# Altium footprint library notus.PcbLib: 31 footprints (part 2 of 2)
Each footprint in its own frame and in the unit in brackets; x right, y up, seen from the top. Pads: shape width x height; smd on the part's side, far side on the other; paste and mask are expansions set on the pad; w line width, h text height; cw(c..) or ccw(c..) is an arc to the next point about the centre after c.
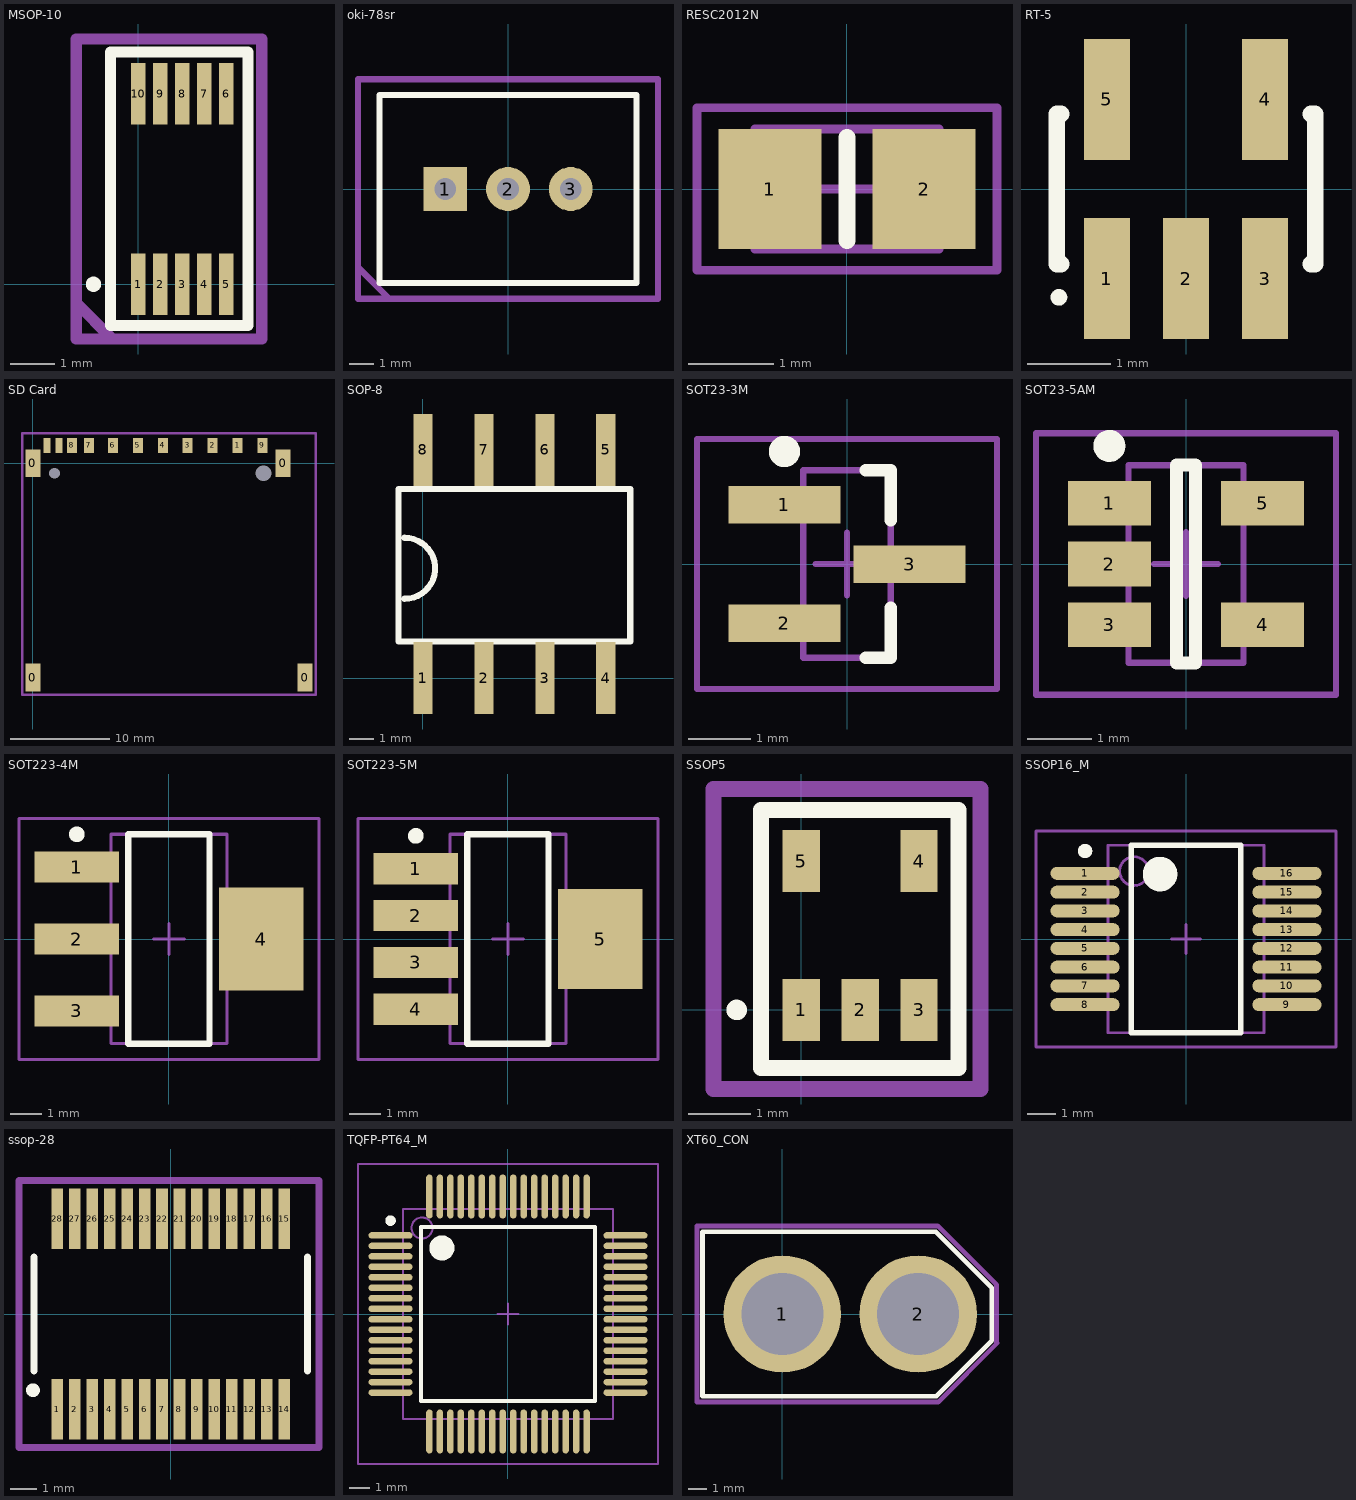
[diagram p1: the footprints below, top view; thin cyan lines are the x and y axes]

## MSOP-10 [mm]
pads (10):
  rect 0.33x1.4 smd mask+0.08: 1(0,0) 2(0.5,0) 3(1,0) 4(1.5,0) 5(2,0) 6(2,4.33) 7(1.5,4.33) 8(1,4.33) 9(0.5,4.33) 10(0,4.33)
Top Overlay:
  circle w0.254: c-1.015,0 r0.046
  lines w0.254: -0.469,-0.94 2.5,-0.94 2.5,5.283 -0.625,5.283 -0.625,-0.94 -0.312,-0.94
Mechanical 15:
  lines w0.254: -1.398,-0.431 -0.61,-1.219 ; -1.406,-1.245 -1.406,0 -1.406,5.577 2.812,5.577 2.812,-1.245 -1.406,-1.245
  text ".Designator" at -3,1.69 h1.52
3D body: height 1.1, standoff 0, extent -0.156,0 2.187,4.326

## oki-78sr [mil] "5V regulator"
pads (3):
  rect 70x70 hole 35: 1(-100,0)
  round 70 hole 35: 2(0,0) 3(100,0)
Top Overlay:
  lines w10: -205,-150 205,-150 205,150 -205,150 -205,-150
Mechanical 15:
  lines w10: -239.12,-125 -189.12,-175 -170.8,-175 ; -239.12,-175 239.12,-175 239.12,175 -239.12,175 -239.12,-175
3D body: height 650, standoff 0, extent -204.96,-150 204.96,150

## RESC2012N [mm] "Chip Resistor, Body 2.0x1.3mm, IPC Medium Density"
height 0.65
pads (2):
  rect 1.2x1.4 smd: 1(-0.9,0) 2(0.9,0)
Top Overlay:
  lines w0.2: 0,-0.6 0,0.6
Mechanical 13:
  lines w0.1: -1.075,-0.7 1.075,-0.7 1.075,0.7 -1.075,0.7 -1.075,-0.7
Mechanical 15:
  lines w0.1: -0.5,0 0.5,0 ; 0,-0.5 0,0.5 ; -1.75,-0.95 1.75,-0.95 1.75,0.95 -1.75,0.95 -1.75,-0.95
3D body: height 0.65, standoff 0, extent -1.075,-0.7 1.075,0.7

## RT-5 [mm] "SOT-23/SC-74A; 5 Leads; Body 3.1 x 3 mm, inc. leads (LxW max)"
height 1.45
pads (5):
  rect 0.55x1.45 smd: 1(-0.95,-1.075) 2(0,-1.075) 3(0.95,-1.075) 4(0.95,1.075) 5(-0.95,1.075)
Top Overlay:
  circle w0.1: c-1.525,-1.3 r0.05
  lines w0.2: -1.5,-0.9 -1.55,-0.9 -1.55,0.9 -1.5,0.9 ; 1.5,-0.9 1.55,-0.9 1.55,0.9 1.5,0.9

## SD Card [mm] "SD Card connector"
pads (17):
  rect 1.5x2.8 smd: 0(0,-21.5) 0(0,0) 0(25.1,0) 0(27.3,-21.5)
  rect 1x1.5 smd: 1(20.525,1.8) 2(18.025,1.8) 3(15.525,1.8) 4(13.025,1.8) 5(10.525,1.8) 6(8.025,1.8) 7(5.6,1.8) 8(3.9,1.8) 9(23.025,1.8)
  rect 0.7x1.5 smd: 10(1.4,1.8) 10(2.6,1.8)
  round 0 hole 1.1 unplated: 10(2.15,-1)
  round 0 hole 1.6 unplated: 10(23.15,-1)
Mechanical 15:
  lines w0.254: -1.092,-23.22 28.392,-23.22 28.392,3.01 -1.092,3.01 -1.092,-23.22

## SOP-8 [mm]
pads (8):
  rect 0.8x3 smd: 1(0,0) 2(2.54,0) 3(5.08,0) 4(7.62,0) 5(7.62,9.5) 6(5.08,9.5) 7(2.54,9.5) 8(0,9.5)
Top Overlay:
  lines w0.254: -1.016,1.524 8.636,1.524 ; -1.016,1.528 -1.016,7.874 8.636,7.874 8.636,1.528 ; -0.762,3.302 ccw(c-0.762,4.572) -0.762,5.842
3D body: height 4.9, standoff 0.3, extent -1.143,1.397 8.763,8.001

## SOT23-3M [mm] "SOT23, 3-Leads, Body 2.9x1.3mm, Pitch 0.95mm, Lead Span 2.5mm, IPC Low Density"
height 1.1
pads (3):
  rect 1.8x0.6 smd: 1(-1,0.95) 2(-1,-0.95) 3(1,0)
Top Overlay:
  circle w0.25: c-1,1.8 r0.125
  lines w0.2: 0.3,-1.5 0.7,-1.5 0.7,-0.7 ; 0.3,1.5 0.7,1.5 0.7,0.7
Mechanical 13:
  lines w0.1: -0.7,-1.5 0.7,-1.5 0.7,1.5 -0.7,1.5 -0.7,-1.5
Mechanical 15:
  lines w0.1: -0.5,0 0.5,0 ; 0,-0.5 0,0.5 ; -2.4,-2 2.4,-2 2.4,2 -2.4,2 -2.4,-2
3D body: height 1.1, standoff 0, extent -0.7,-1.5 0.7,1.5

## SOT23-5AM [mm] "SOT23, 5-Leads, Body 2.9x1.7mm, Pitch 0.95mm, Lead Span 2.8mm, IPC Low Density"
height 1.45
pads (5):
  rect 1.3x0.7 smd: 1(-1.2,0.95) 2(-1.2,0) 3(-1.2,-0.95) 4(1.2,-0.95) 5(1.2,0.95)
Top Overlay:
  circle w0.25: c-1.2,1.85 r0.125
  lines w0.2: -0.15,-1.55 0.15,-1.55 0.15,1.55 -0.15,1.55 -0.15,-1.55
Mechanical 13:
  lines w0.1: -0.9,-1.55 -0.9,1.55 0.9,1.55 0.9,-1.55 -0.9,-1.55
Mechanical 15:
  lines w0.1: -0.5,0 0.5,0 ; 0,-0.5 0,0.5 ; -2.35,-2.05 -2.35,2.05 2.35,2.05 2.35,-2.05 -2.35,-2.05
3D body: height 1.45, standoff 0, extent -0.9,-1.55 0.9,1.55

## SOT223-4M [mm] "SOT223, 4-Leads, Body 6.5x3.5mm, Pitch 2.3mm, Lead Span 7mm, IPC Low Density"
height 1.8
pads (4):
  rect 2.7x1 smd: 1(-2.95,2.3) 2(-2.95,0) 3(-2.95,-2.3)
  rect 2.7x3.3 smd: 4(2.95,0)
Top Overlay:
  circle w0.25: c-2.95,3.35 r0.125
  lines w0.2: -1.3,-3.35 -1.3,3.35 1.3,3.35 1.3,-3.35 -1.3,-3.35
Mechanical 13:
  lines w0.1: -1.85,-3.35 -1.85,3.35 1.85,3.35 1.85,-3.35 -1.85,-3.35
Mechanical 15:
  lines w0.1: -0.5,0 0.5,0 ; 0,-0.5 0,0.5 ; -4.8,-3.85 -4.8,3.85 4.8,3.85 4.8,-3.85 -4.8,-3.85
3D body: height 1.8, standoff 0, extent -1.85,-3.35 1.85,3.35

## SOT223-5M [mm] "SOT223, 5-Leads, Body 6.5x3.5mm, Pitch 1.5mm, Lead Span 7mm, IPC Low Density"
height 1.8
pads (5):
  rect 2.7x1 smd: 1(-2.95,2.25) 2(-2.95,0.75) 3(-2.95,-0.75) 4(-2.95,-2.25)
  rect 2.7x3.2 smd: 5(2.95,0)
Top Overlay:
  circle w0.25: c-2.95,3.3 r0.125
  lines w0.2: -1.3,-3.35 1.3,-3.35 1.3,3.35 -1.3,3.35 -1.3,-3.35
Mechanical 13:
  lines w0.1: -1.85,-3.35 1.85,-3.35 1.85,3.35 -1.85,3.35 -1.85,-3.35
Mechanical 15:
  lines w0.1: -0.5,0 0.5,0 ; 0,-0.5 0,0.5 ; -4.8,-3.85 4.8,-3.85 4.8,3.85 -4.8,3.85 -4.8,-3.85
3D body: height 1.8, standoff 0, extent -1.85,-3.35 1.85,3.35

## SSOP5 [mm]
pads (5):
  rect 0.6x1 smd: 1(0,0) 2(0.95,0) 3(1.9,0) 4(1.9,2.4) 5(0,2.4)
Top Overlay:
  circle w0.254: c-1.041,0 r0.038
  lines w0.254: -0.649,-0.937 2.537,-0.937 2.537,3.225 -0.649,3.225 -0.649,-0.937
Mechanical 15:
  lines w0.254: -1.416,-1.275 -0.848,-1.275 -0.826,-1.275 2.891,-1.275 2.891,3.562 -1.416,3.562 -1.416,-1.275
  text ".Designator" at -2.891,0.6 h1.52
3D body: height 1.25, standoff 0, extent -0.295,0 2.183,2.4

## SSOP16_M [mm] "SOP, 16-Leads, Body 6.2x5.3mm, Pitch 0.65mm, IPC Low Density"
height 2
pads (16):
  oval 2.4x0.45 smd: 1(-3.5,2.275) 2(-3.5,1.625) 3(-3.5,0.975) 4(-3.5,0.325) 5(-3.5,-0.325) 6(-3.5,-0.975) 7(-3.5,-1.625) 8(-3.5,-2.275) 9(3.5,-2.275) 10(3.5,-1.625) 11(3.5,-0.975) 12(3.5,-0.325) 13(3.5,0.325) 14(3.5,0.975) 15(3.5,1.625) 16(3.5,2.275)
Top Overlay:
  circle w0.25: c-3.5,3.05 r0.125
  circle w0.6: c-0.9,2.25 r0.3
  lines w0.2: -1.9,-3.25 -1.9,3.25 1.9,3.25 1.9,-3.25 -1.9,-3.25
Mechanical 13:
  circle w0.1: c-1.8,2.35 r0.5
  lines w0.1: -2.7,-3.25 -2.7,3.25 2.7,3.25 2.7,-3.25 -2.7,-3.25
Mechanical 15:
  lines w0.1: -0.5,0 0.5,0 ; 0,-0.5 0,0.5 ; -5.2,-3.75 -5.2,3.75 5.2,3.75 5.2,-3.75 -5.2,-3.75
3D body: height 2, standoff 0, extent -2.7,-3.25 2.7,3.25

## ssop-28 [mm]
pads (28):
  rect 0.432x2.261 smd: 1(-4.225,-3.55) 2(-3.575,-3.55) 3(-2.925,-3.55) 4(-2.275,-3.55) 5(-1.625,-3.55) 6(-0.975,-3.55) 7(-0.325,-3.55) 8(0.325,-3.55) 9(0.975,-3.55) 10(1.625,-3.55) 11(2.275,-3.55) 12(2.925,-3.55) 13(3.575,-3.55) 14(4.225,-3.55) 15(4.225,3.55) 16(3.575,3.55) 17(2.925,3.55) 18(2.275,3.55) 19(1.625,3.55) 20(0.975,3.55) 21(0.325,3.55) 22(-0.325,3.55) 23(-0.975,3.55) 24(-1.625,3.55) 25(-2.275,3.55) 26(-2.925,3.55) 27(-3.575,3.55) 28(-4.225,3.55)
Top Overlay:
  circle w0.254: c-5.135,-2.84 r0.13
  lines w0.254: -5.1,-2.13 -5.1,2.13 ; 5.1,-2.13 5.1,2.13
Mechanical 15:
  lines w0.254: -5.655,-4.97 5.525,-4.97 5.525,4.97 -5.655,4.97 -5.655,-1.42 -5.655,-4.97
3D body: height 1.75, standoff 0, extent -5,-2.65 5,2.65

## TQFP-PT64_M [mm] "Thin QFP, 64-Leads, Body 10x10mm, Pitch 0.5mm, IPC Low Density"
height 1.2
pads (64):
  oval 2.1x0.3 smd: 1(-5.6,3.75) 2(-5.6,3.25) 3(-5.6,2.75) 4(-5.6,2.25) 5(-5.6,1.75) 6(-5.6,1.25) 7(-5.6,0.75) 8(-5.6,0.25) 9(-5.6,-0.25) 10(-5.6,-0.75) 11(-5.6,-1.25) 12(-5.6,-1.75) 13(-5.6,-2.25) 14(-5.6,-2.75) 15(-5.6,-3.25) 16(-5.6,-3.75) 33(5.6,-3.75) 34(5.6,-3.25) 35(5.6,-2.75) 36(5.6,-2.25) 37(5.6,-1.75) 38(5.6,-1.25) 39(5.6,-0.75) 40(5.6,-0.25) 41(5.6,0.25) 42(5.6,0.75) 43(5.6,1.25) 44(5.6,1.75) 45(5.6,2.25) 46(5.6,2.75) 47(5.6,3.25) 48(5.6,3.75)
  oval 0.3x2.1 smd: 17(-3.75,-5.6) 18(-3.25,-5.6) 19(-2.75,-5.6) 20(-2.25,-5.6) 21(-1.75,-5.6) 22(-1.25,-5.6) 23(-0.75,-5.6) 24(-0.25,-5.6) 25(0.25,-5.6) 26(0.75,-5.6) 27(1.25,-5.6) 28(1.75,-5.6) 29(2.25,-5.6) 30(2.75,-5.6) 31(3.25,-5.6) 32(3.75,-5.6) 49(3.75,5.6) 50(3.25,5.6) 51(2.75,5.6) 52(2.25,5.6) 53(1.75,5.6) 54(1.25,5.6) 55(0.75,5.6) 56(0.25,5.6) 57(-0.25,5.6) 58(-0.75,5.6) 59(-1.25,5.6) 60(-1.75,5.6) 61(-2.25,5.6) 62(-2.75,5.6) 63(-3.25,5.6) 64(-3.75,5.6)
Top Overlay:
  circle w0.25: c-5.6,4.45 r0.125
  circle w0.6: c-3.15,3.15 r0.3
  lines w0.2: -4.15,-4.15 -4.15,4.15 4.15,4.15 4.15,-4.15 -4.15,-4.15
Mechanical 13:
  circle w0.1: c-4.1,4.1 r0.5
  lines w0.1: -5,-5 -5,5 5,5 5,-5 -5,-5
Mechanical 15:
  lines w0.1: -0.5,0 0.5,0 ; 0,-0.5 0,0.5 ; -7.15,-7.15 -7.15,7.15 7.15,7.15 7.15,-7.15 -7.15,-7.15
3D body: height 1.2, standoff 0, extent -5,-5 5,5

## XT60_CON [mil]
pads (2):
  round 250 hole 175: 1(0,0) 2(289,0)
Top Overlay:
  lines w10: 0,175 327,175 446,56 446,-57 328,-175 311.12,-175 -170,-175 -170,175 320,175
Mechanical 15:
  lines w10: -181.7,-187.5 240.35,-187.5 331.5,-187.5 456.89,-62.11 456.89,-61.35 456,-60.46 456,62 330.5,187.5 -181.7,187.5 -181.7,-187.5